# EAGLE library part A5984-24QFN (library A5984)
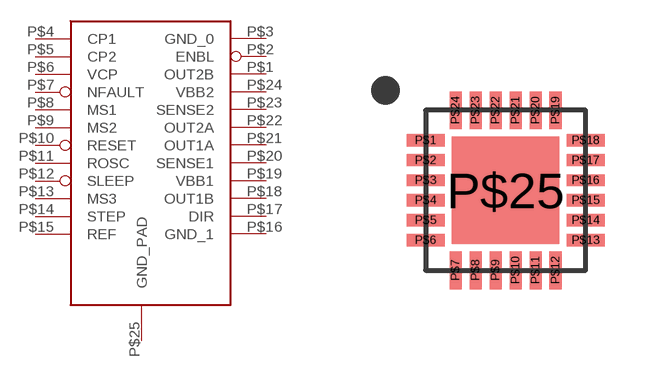
[diagram p1: symbol with the pads of QFN-24; footprint QFN-24]

Designator prefix -

## A5984-24QFN  [QFN-24]
P$1  OUT2B  out
P$2  ENBL  in
P$3  GND_0  pwr
P$4  CP1
P$5  CP2
P$6  VCP
P$7  NFAULT  out
P$8  MS1  in
P$9  MS2  in
P$10  RESET  in
P$11  ROSC  in
P$12  SLEEP  in
P$13  MS3  in
P$14  STEP  in
P$15  REF  in
P$16  GND_1  pwr
P$17  DIR  in
P$18  OUT1B  out
P$19  VBB1  pwr
P$20  SENSE1  out
P$21  OUT1A  out
P$22  OUT2A  out
P$23  SENSE2  out
P$24  VBB2  pwr
P$25  GND_PAD  pwr

## Footprint QFN-24 (pad centres in mm)
smd 0.95 x 0.3: P$1 1,4.25; P$2 1,3.75; P$3 1,3.25; P$4 1,2.75; P$5 1,2.25; P$6 1,1.75; P$13 5,1.75; P$14 5,2.25; P$15 5,2.75; P$16 5,3.25; P$17 5,3.75; P$18 5,4.25
smd 0.3 x 0.95: P$7 1.75,1; P$8 2.25,1; P$9 2.75,1; P$10 3.25,1; P$11 3.75,1; P$12 4.25,1; P$19 4.25,5; P$20 3.75,5; P$21 3.25,5; P$22 2.75,5; P$23 2.25,5; P$24 1.75,5
smd 2.7 x 2.7: P$25 3,3